# Altium schematic symbol library V275LA2P.Schlib: 1 symbol
Pins are listed as number, name and electrical type; pins without a type are passive.

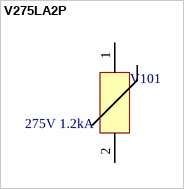
[diagram p0: symbol V275LA2P]

## V275LA2P
designator V101, comment 275V 1.2kA
Varistors 275V 450pF
pins: 1, 2